# Altium footprint library VQFN-32(6.0X6.0)_MIC28.PcbLib: 1 footprints
Each footprint in its own frame and in the unit in brackets; x right, y up, seen from the top. Pads: shape width x height; smd on the part's side, far side on the other; paste and mask are expansions set on the pad; w line width, h text height; cw(c..) or ccw(c..) is an arc to the next point about the centre after c.
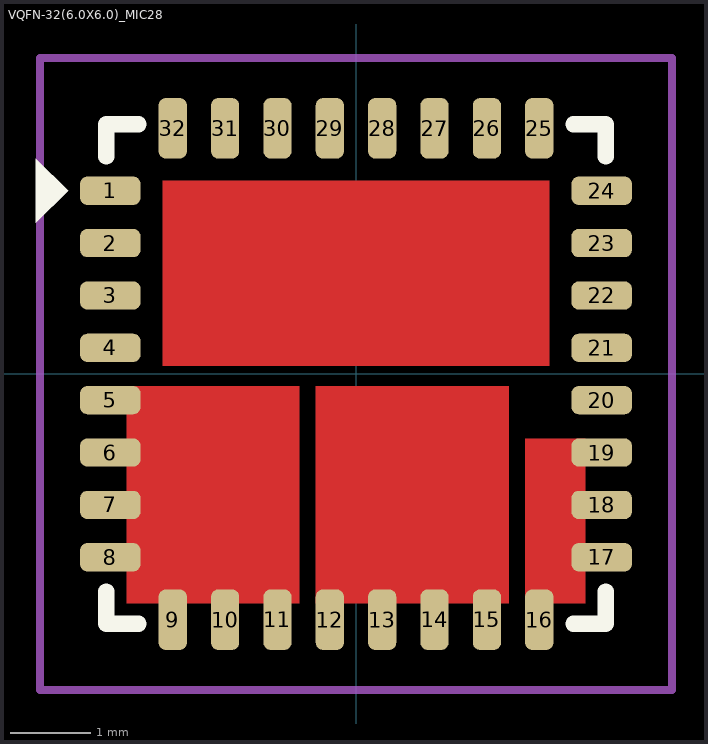
[diagram p0: the footprint, top view; thin cyan lines are the x and y axes]

## VQFN-32(6.0X6.0)_MIC28 [mm]
height 0.9
pads (32):
  rrect50% 0.75x0.35 smd: 1(-3.05,2.275) 2(-3.05,1.625) 3(-3.05,0.975) 4(-3.05,0.325) 5(-3.05,-0.325) 6(-3.05,-0.975) 7(-3.05,-1.625) 8(-3.05,-2.275) 17(3.05,-2.275) 18(3.05,-1.625) 19(3.05,-0.975) 20(3.05,-0.325) 21(3.05,0.325) 22(3.05,0.975) 23(3.05,1.625) 24(3.05,2.275)
  rrect50% 0.35x0.75 smd: 9(-2.275,-3.05) 10(-1.625,-3.05) 11(-0.975,-3.05) 12(-0.325,-3.05) 13(0.325,-3.05) 14(0.975,-3.05) 15(1.625,-3.05) 16(2.275,-3.05) 25(2.275,3.05) 26(1.625,3.05) 27(0.975,3.05) 28(0.325,3.05) 29(-0.325,3.05) 30(-0.975,3.05) 31(-1.625,3.05) 32(-2.275,3.05)
Top Layer:
  rectangle: -2.85,-2.85 -0.7,-0.15
  rectangle: -0.5,-2.85 1.9,-0.15
  rectangle: 2.1,-2.85 2.85,-0.8
  rectangle: -2.4,0.1 2.4,2.4
Top Overlay:
  region: -3.975,1.875 -3.975,2.675 -3.575,2.275
  lines w0.2: -3.1,-2.7 -3.1,-3.1 -2.7,-3.1 ; -3.1,2.7 -3.1,3.1 -2.7,3.1 ; 2.7,-3.1 3.1,-3.1 3.1,-2.7 ; 2.7,3.1 3.1,3.1 3.1,2.7
Top Courtyard:
  lines w0.1: -3.925,-3.925 3.925,-3.925 3.925,3.925 -3.925,3.925 -3.925,-3.925
3D body "QFN65P600X600X90_HS-33N.step": height 0.9, standoff 0, extent -3.01,-3.01 3.01,3.01